# EAGLE library part TEENSY4.0FULL (library Teensy4.0FULL)
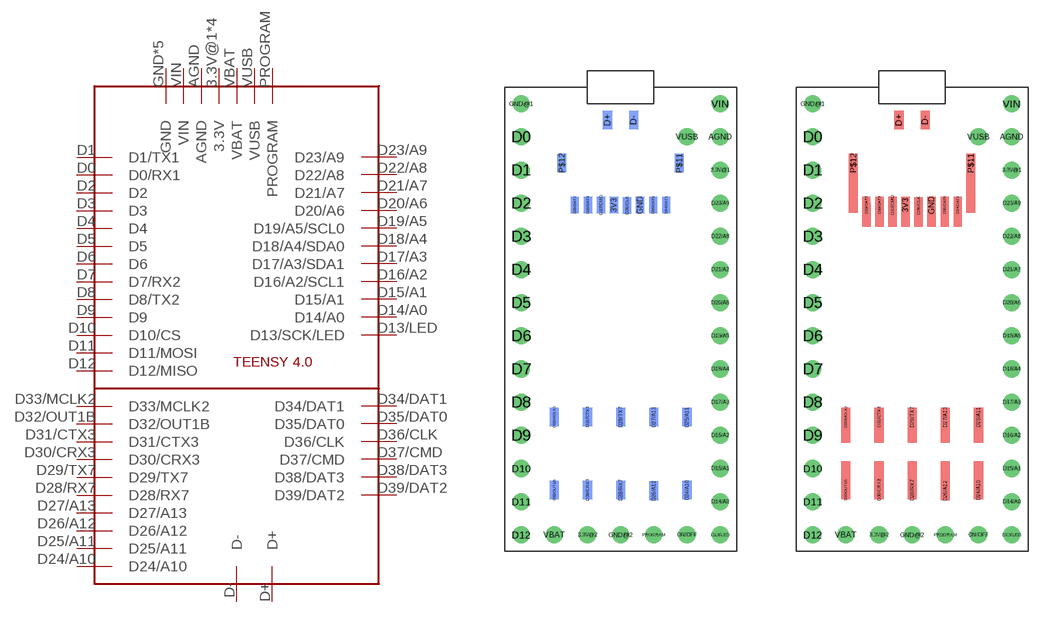
[diagram p0: symbol with the pads of TEENSY4.0FULL-BOTTOM; footprints TEENSY4.0FULL-BOTTOM, TEENSY4.0FULL-TOP]

Designator prefix -

## TEENSY4.0FULL  [TEENSY4.0FULL-BOTTOM]
3.3V@1  3.3V
3.3V@2  3.3V
3V3  3.3V
AGND  AGND
D0  D0/RX1
D1  D1/TX1
D2  D2
D3  D3
D4  D4
D5  D5
D6  D6
D7  D7/RX2
D8  D8/TX2
D9  D9
D10  D10/CS
D11  D11/MOSI
D12  D12/MISO
D13/LED  D13/SCK/LED
D14/A0  D14/A0
D15/A1  D15/A1
D16/A2  D16/A2/SCL1
D17/A3  D17/A3/SDA1
D18/A4  D18/A4/SDA0
D19/A5  D19/A5/SCL0
D20/A6  D20/A6
D21/A7  D21/A7
D22/A8  D22/A8
D23/A9  D23/A9
D24/A10  D24/A10
D25/A11  D25/A11
D26/A12  D26/A12
D27/A13  D27/A13
D28/RX7  D28/RX7
D29/TX7  D29/TX7
D30/CRX3  D30/CRX3
D31/CTX3  D31/CTX3
D32/OUT1B  D32/OUT1B
D33/MCLK2  D33/MCLK2
D34/DAT1  D34/DAT1
D35/DAT0  D35/DAT0
D36/CLK  D36/CLK
D37/CMD  D37/CMD
D38/DAT3  D38/DAT3
D39/DAT2  D39/DAT2
D+  D+
D-  D-
GND  GND
GND@1  GND
GND@2  GND
ON/OFF  3.3V
P$11  GND
P$12  GND
PROGRAM  PROGRAM
VBAT  VBAT
VIN  VIN
VUSB  VUSB

## TEENSY4.0FULLTEENSY4.0FULL-TOP  [TEENSY4.0FULL-TOP]
Pads as for TEENSY4.0FULL-BOTTOM

## Footprint TEENSY4.0FULL-BOTTOM (pad centres in mm)
drill 0.8: 3.3V@1 7.62,10.16; 3.3V@2 -2.54,-17.78; AGND 7.62,12.7; D0 -7.62,12.7; D1 -7.62,10.16; D2 -7.62,7.62; D3 -7.62,5.08; D4 -7.62,2.54; D5 -7.62,0; D6 -7.62,-2.54; D7 -7.62,-5.08; D8 -7.62,-7.62; D9 -7.62,-10.16; D10 -7.62,-12.7; D11 -7.62,-15.24; D12 -7.62,-17.78; D13/LED 7.62,-17.78; D14/A0 7.62,-15.24; D15/A1 7.62,-12.7; D16/A2 7.62,-10.16; D17/A3 7.62,-7.62; D18/A4 7.62,-5.08; D19/A5 7.62,-2.54; D20/A6 7.62,0; D21/A7 7.62,2.54; D22/A8 7.62,5.08; D23/A9 7.62,7.62; GND@1 -7.62,15.24; GND@2 0,-17.78; ON/OFF 5.08,-17.78; PROGRAM 2.54,-17.78; VBAT -5.08,-17.78; VIN 7.62,15.24; VUSB 5.08,12.7
smd 0.635 x 1.27 bottom: 3V3 -0.508,7.473; D34/DAT1 3.492,7.473; D35/DAT0 2.492,7.473; D36/CLK 0.492,7.443; D37/CMD -1.508,7.473; D38/DAT3 -2.508,7.473; D39/DAT2 -3.508,7.473; GND 1.492,7.473
smd 0.711 x 1.422 bottom: D24/A10 5.08,-14.351; D25/A11 5.08,-8.763; D26/A12 2.54,-14.402; D27/A13 2.54,-8.763; D28/RX7 0,-14.351; D29/TX7 0,-8.763; D30/CRX3 -2.54,-14.351; D31/CTX3 -2.54,-8.763; D32/OUT1B -5.08,-14.351; D33/MCLK2 -5.08,-8.763; D+ -1,14; D- 1,14; P$11 4.492,10.687; P$12 -4.508,10.7

## Footprint TEENSY4.0FULL-TOP (pad centres in mm)
drill 0.8: 3.3V@1 7.62,10.16; 3.3V@2 -2.54,-17.78; AGND 7.62,12.7; D0 -7.62,12.7; D1 -7.62,10.16; D2 -7.62,7.62; D3 -7.62,5.08; D4 -7.62,2.54; D5 -7.62,0; D6 -7.62,-2.54; D7 -7.62,-5.08; D8 -7.62,-7.62; D9 -7.62,-10.16; D10 -7.62,-12.7; D11 -7.62,-15.24; D12 -7.62,-17.78; D13/LED 7.62,-17.78; D14/A0 7.62,-15.24; D15/A1 7.62,-12.7; D16/A2 7.62,-10.16; D17/A3 7.62,-7.62; D18/A4 7.62,-5.08; D19/A5 7.62,-2.54; D20/A6 7.62,0; D21/A7 7.62,2.54; D22/A8 7.62,5.08; D23/A9 7.62,7.62; GND@1 -7.62,15.24; GND@2 0,-17.78; ON/OFF 5.08,-17.78; PROGRAM 2.54,-17.78; VBAT -5.08,-17.78; VIN 7.62,15.24; VUSB 5.08,12.7
smd 0.635 x 1.27: 3V3 -0.508,7.473; D34/DAT1 3.492,7.473; D35/DAT0 2.492,7.473; D36/CLK 0.492,7.443; D37/CMD -1.508,7.473; D38/DAT3 -2.508,7.473; D39/DAT2 -3.508,7.473; GND 1.492,7.473
smd 0.711 x 1.422: D24/A10 5.08,-14.351; D25/A11 5.08,-8.763; D26/A12 2.54,-14.402; D27/A13 2.54,-8.763; D28/RX7 0,-14.351; D29/TX7 0,-8.763; D30/CRX3 -2.54,-14.351; D31/CTX3 -2.54,-8.763; D32/OUT1B -5.08,-14.351; D33/MCLK2 -5.08,-8.763; D+ -1,14; D- 1,14; P$11 4.492,10.687; P$12 -4.508,10.7